# EAGLE library part ARDUINO-TEENSY++_NO-END-PINS (library CMU-ArtFab)
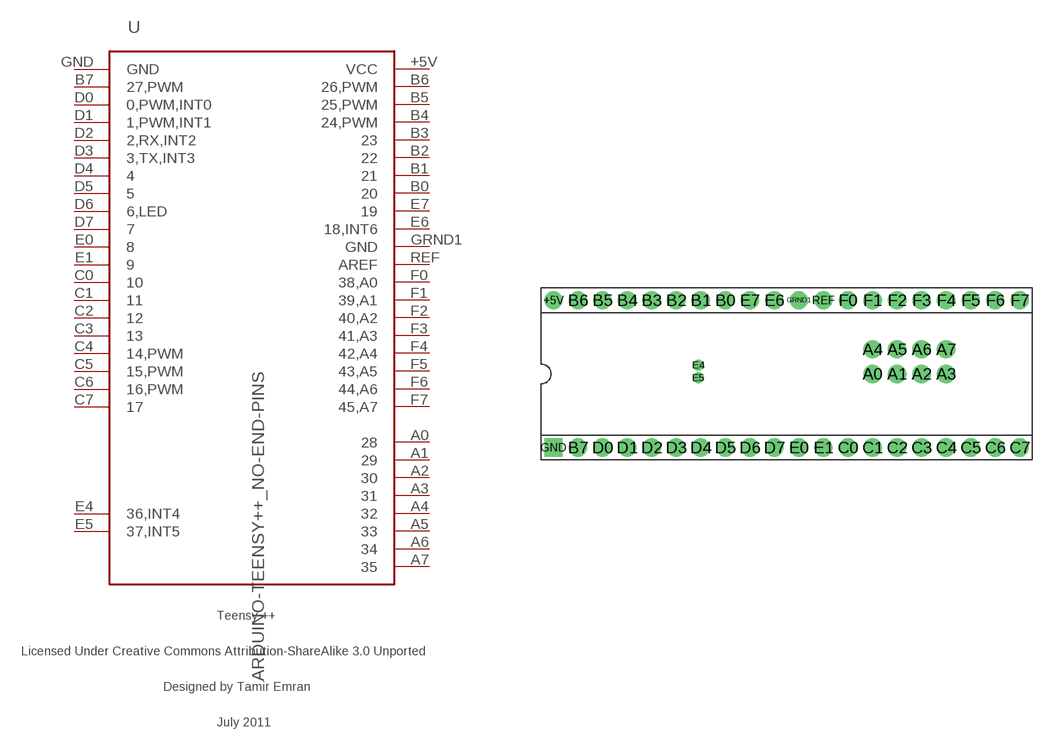
[diagram p9: symbol with the pads of TEENSY++_NO-END-PINS; footprint TEENSY++_NO-END-PINS]

Designator prefix -

## ARDUINO-TEENSY++_NO-END-PINS  [TEENSY++_NO-END-PINS]
+5V  VCC  pwr
A0  28
A1  29
A2  30
A3  31
A4  32
A5  33
A6  34
A7  35
B0  20
B1  21
B2  22
B3  23
B4  24,PWM
B5  25,PWM
B6  26,PWM
B7  27,PWM
C0  10
C1  11
C2  12
C3  13
C4  14,PWM
C5  15,PWM
C6  16,PWM
C7  17
D0  0,PWM,INT0
D1  1,PWM,INT1
D2  2,RX,INT2
D3  3,TX,INT3
D4  4
D5  5
D6  6,LED
D7  7
E0  8
E1  9
E4  36,INT4
E5  37,INT5
E6  18,INT6
E7  19
F0  38,A0
F1  39,A1
F2  40,A2
F3  41,A3
F4  42,A4
F5  43,A5
F6  44,A6
F7  45,A7
GND  GND  pwr
GRND1  GND  pwr
REF  AREF  in

## Footprint TEENSY++_NO-END-PINS (pad centres in mm)
Teeny++ without the end pins
drill 1.016 pad 1.88: +5V -22.86,7.62; A0 10.16,0; A1 12.7,0; A2 15.24,0; A3 17.78,0; A4 10.16,2.54; A5 12.7,2.54; A6 15.24,2.54; A7 17.78,2.54; B0 -5.08,7.62; B1 -7.62,7.62; B2 -10.16,7.62; B3 -12.7,7.62; B4 -15.24,7.62; B5 -17.78,7.62; B6 -20.32,7.62; B7 -20.32,-7.62; C0 7.62,-7.62; C1 10.16,-7.62; C2 12.7,-7.62; C3 15.24,-7.62; C4 17.78,-7.62; C5 20.32,-7.62; C6 22.86,-7.62; C7 25.4,-7.62; D0 -17.78,-7.62; D1 -15.24,-7.62; D2 -12.7,-7.62; D3 -10.16,-7.62; D4 -7.62,-7.62; D5 -5.08,-7.62; D6 -2.54,-7.62; D7 0,-7.62; E0 2.54,-7.62; E1 5.08,-7.62; E6 0,7.62; E7 -2.54,7.62; F0 7.62,7.62; F1 10.16,7.62; F2 12.7,7.62; F3 15.24,7.62; F4 17.78,7.62; F5 20.32,7.62; F6 22.86,7.62; F7 25.4,7.62; GRND1 2.54,7.62; REF 5.08,7.62
drill 0.635 pad 1.067: E4 -7.874,0.914; E5 -7.874,-0.406
drill 1.016 pad 1.88 square: GND -22.86,-7.62